# Altium schematic symbol library DC_AC_Inverter.SchLib: 39 symbols (part 3 of 4)
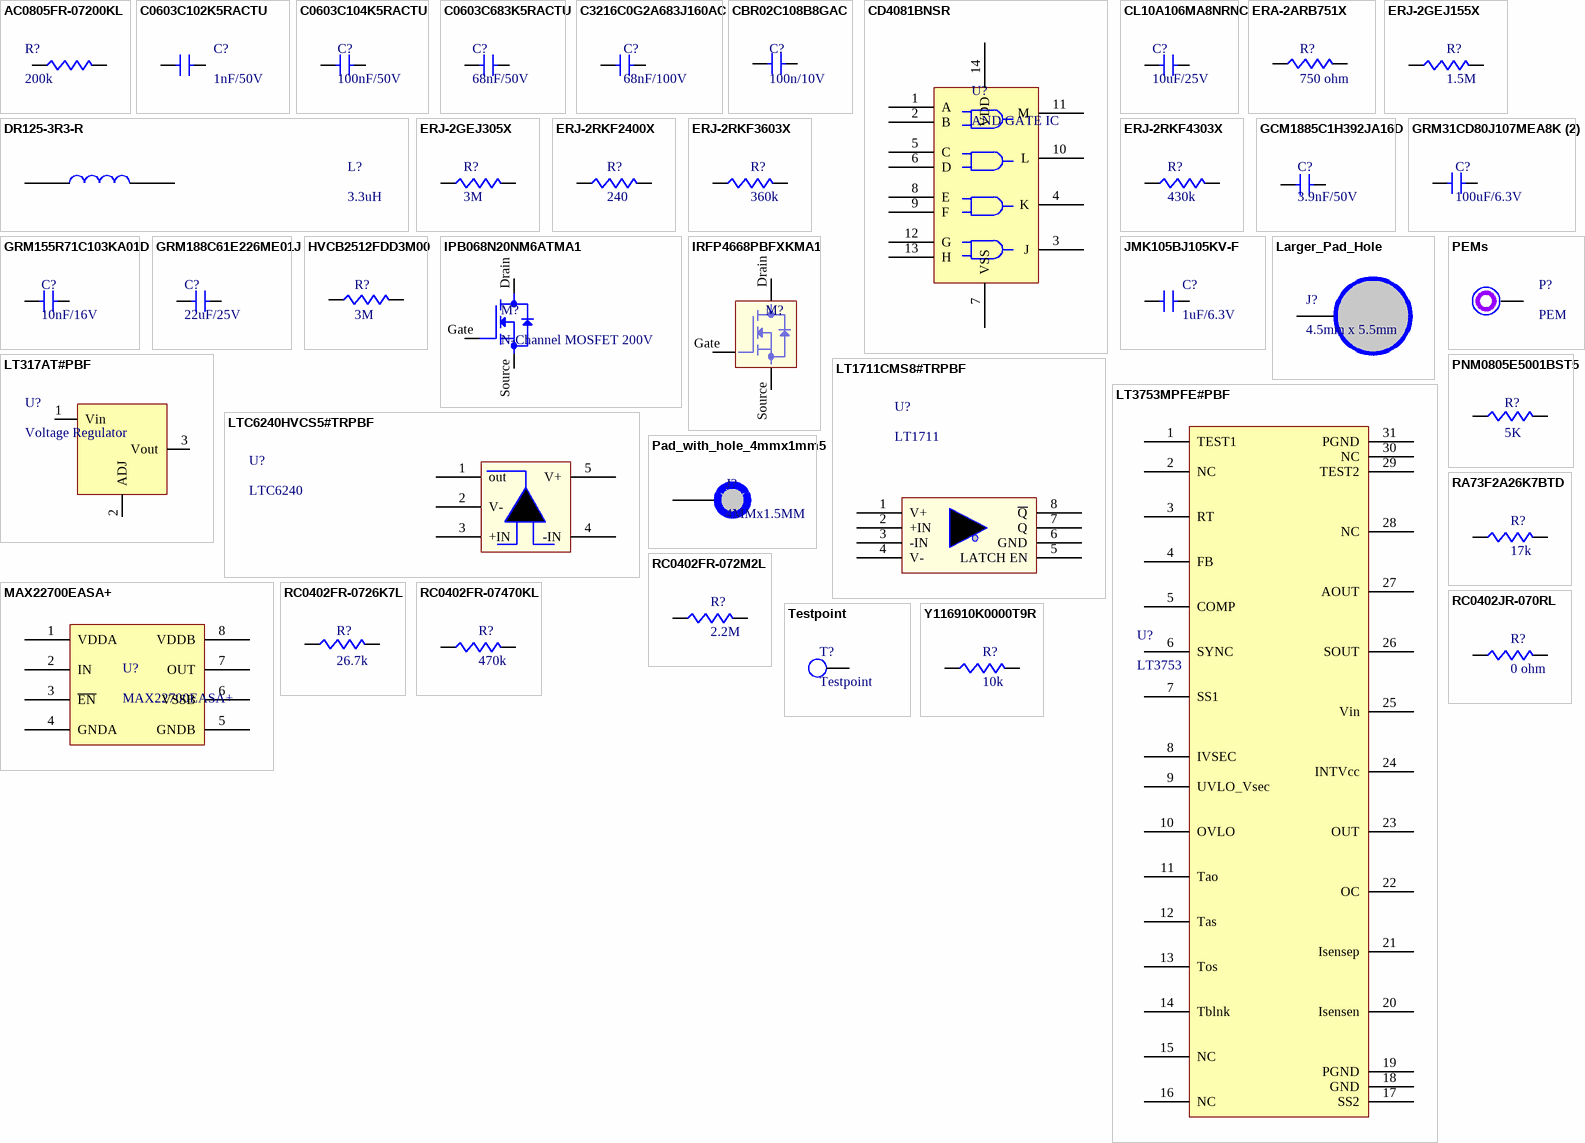
[diagram p2: symbols AC0805FR-07200KL to Y116910K0000T9R]

## GRM188C61E226ME01J
designator C?, comment 22uF/25V
Ceramic Capacitor, Multilayer, Ceramic, 25V, 20% +Tol, 20% -Tol, X5S, 22% TC, 22uF, Surface Mount, 0603; Manufacturer: Murata; Manufacturer Part Number: GRM188C61E226ME01J; Value: 22µF; Supplier: DigiKey; Supplier Part Number: 490-GRM188C61E226ME01JDKR-ND; RoHS: Compliant; Category: Ceramic Capacitors; Stock: 20437; Pricing: 1=0.41, 10=0.244, 50=0.181, 100=0.1615, 500=0.12866, 1000=0.11854, 2500=0.10786, 5000=0.10143 (USD); Case/Package: 0603; Dielectric: X5S; Dielectric Material: Ceramic; Export Control Classification Number (ECCN) Code: EAR99; Height: 800µm; Harmonized Tariff Schedule (HTS) Code: 8532.24.00.20; Introduction Date: 2024-04-22; Length: 1.6mm; Lifecycle Status: Production; Material: Ceramic; Max Operating Temperature: 85°C; Min Operating Temperature: -55°C; Mounting Technology: Surface Mount; Number of Terminals: 2; REACH SVHC: Yes; Thickness: 800µm; Tolerance: 20%; Voltage Rating: 25V; Voltage Rating (DC): 25V; Width: 800µm; ComponentLink1URL: https://datasheet.octopart.com/GRM188C61E226ME01J-Murata-datasheet-12515295.pdf; ComponentLink1Description: https://datasheet.octopart.com/GRM188C61E226ME01J-Murata-datasheet-12515295.pdf; ComponentLink2URL: https://datasheet.octopart.com/GRM188C61E226ME01J-Murata-datasheet-12510076.pdf; ComponentLink2Description: https://datasheet.octopart.com/GRM188C61E226ME01J-Murata-datasheet-12510076.pdf; ComponentLink3URL: https://datasheet.octopart.com/GRM188C61E226ME01J-Murata-datasheet-11978611.pdf; ComponentLink3Description: https://datasheet.octopart.com/GRM188C61E226ME01J-Murata-datasheet-11978611.pdf; ComponentLink4URL: https://datasheet.octopart.com/GRM188C61E226ME01J-Murata-datasheet-10025737.pdf; ComponentLink4Description: https://datasheet.octopart.com/GRM188C61E226ME01J-Murata-datasheet-10025737.pdf; ComponentLink5URL: https://datasheet.octopart.com/GRM188C61E226ME01J-Murata-datasheet-8819587.pdf; ComponentLink5Description: https://datasheet.octopart.com/GRM188C61E226ME01J-Murata-datasheet-8819587.pdf; ComponentLink6URL: http://sigma.octopart.com:80/reach_statement/Murata-company-16.pdf?src-supplier=Compliance+Statements; ComponentLink6Description: http://sigma.octopart.com:80/reach_statement/Murata-company-16.pdf?src-supplier=Compliance+Statements
footprint Capacitor
pins: 1, 2

## HVCB2512FDD3M00
designator R?, comment 3M
Res Thick Film 2512 3M Ohm 1% 2W ±100ppm/°C Molded SMD Plastic T/R; Manufacturer: Stackpole Electronics; Manufacturer Part Number: HVCB2512FDD3M00; Value: 3MΩ; Working Voltage: 3kV; Supplier: DigiKey; Supplier Part Number: HVCB2512FDD3M00CT-ND; RoHS: Compliant; Category: Chip SMD Resistors; Stock: 4368; Pricing: 1=4.71, 10=3.568, 25=3.51, 50=3.16, 100=3.06 (USD); Case/Package: 2512; Case Code (Imperial): 2512; Case Code (Metric): 6432; Composition: Thick Film; Height: 760µm; Length: 6.35mm; Lifecycle Status: Production; Max Operating Temperature: 150°C; Max Power Dissipation: 2W; Min Operating Temperature: -55°C; Mounting Technology: Surface Mount; Number of Terminals: 2; Number of Terminations: 2; Packaging: Digi-Reel®; Power Dissipation: 2W; REACH SVHC: Yes; Schedule B: 8533210045, 8533210045|8533210045|8533210045|8533210045|8533210045; Temperature Coefficient: 100ppm/°C; Tolerance: 1%; Width: 3.18mm; ComponentLink1URL: https://datasheet.octopart.com:443/HVCB2512FDD3M00-Stackpole-Electronics-datasheet-182147965.pdf?src-supplier=IHS; ComponentLink1Description: https://datasheet.octopart.com:443/HVCB2512FDD3M00-Stackpole-Electronics-datasheet-182147965.pdf?src-supplier=IHS; ComponentLink2URL: https://datasheet.octopart.com:443/HVCB2512FDD3M00-Stackpole-Electronics-datasheet-141193802.pdf?src-supplier=Stackpole+Electronics; ComponentLink2Description: https://datasheet.octopart.com:443/HVCB2512FDD3M00-Stackpole-Electronics-datasheet-141193802.pdf?src-supplier=Stackpole+Electronics; ComponentLink3URL: https://datasheet.octopart.com:443/HVCB2512FDD3M00-Stackpole-Electronics-datasheet-43153415.pdf?src-supplier=Stackpole+Electronics; ComponentLink3Description: https://datasheet.octopart.com:443/HVCB2512FDD3M00-Stackpole-Electronics-datasheet-43153415.pdf?src-supplier=Stackpole+Electronics; ComponentLink4URL: https://datasheet.octopart.com:443/HVCB2512FDD3M00-Stackpole-Electronics-datasheet-145014844.pdf?src-supplier=Future+Electronics; ComponentLink4Description: https://datasheet.octopart.com:443/HVCB2512FDD3M00-Stackpole-Electronics-datasheet-145014844.pdf?src-supplier=Future+Electronics; ComponentLink5URL: https://datasheet.octopart.com:443/HVCB2512FDD3M00-Stackpole-Electronics-datasheet-12549496.pdf?src-supplier=Factory+Futures; ComponentLink5Description: https://datasheet.octopart.com:443/HVCB2512FDD3M00-Stackpole-Electronics-datasheet-12549496.pdf?src-supplier=Factory+Futures; ComponentLink6URL: http://sigma.octopart.com:80/15940590/materials_sheet/Stackpole-Electronics-HVCB2512FDD3M00.pdf?src-supplier=Compliance+Statements; ComponentLink6Description: http://sigma.octopart.com:80/15940590/materials_sheet/Stackpole-Electronics-HVCB2512FDD3M00.pdf?src-supplier=Compliance+Statements; ComponentLink7URL: http://sigma.octopart.com:80/141158212/rohs_statement/Stackpole-Electronics-HVCB2512FDD3M00.pdf?src-supplier=Compliance+Statements; ComponentLink7Description: http://sigma.octopart.com:80/141158212/rohs_statement/Stackpole-Electronics-HVCB2512FDD3M00.pdf?src-supplier=Compliance+Statements; ComponentLink8URL: http://sigma.octopart.com:80/141158211/reach_statement/Stackpole-Electronics-HVCB2512FDD3M00.pdf?src-supplier=Compliance+Statements; ComponentLink8Description: http://sigma.octopart.com:80/141158211/reach_statement/Stackpole-Electronics-HVCB2512FDD3M00.pdf?src-supplier=Compliance+Statements
footprint Resistor-3M
pins: 1, 2

## IPB068N20NM6ATMA1
designator M?, comment N-Channel MOSFET 200V
Trans MOSFET N-CH 200V 15.4A 3-Pin(2+Tab) D2PAK T/R; Manufacturer: Infineon; Manufacturer Part Number: IPB068N20NM6ATMA1; Supplier: DigiKey; Supplier Part Number: 448-IPB068N20NM6ATMA1CT-ND; RoHS: Compliant; Category: MOSFETs; Stock: 4020; Pricing: 1=8.02, 10=5.45, 100=4.2066 (USD); Lifecycle Status: Production; REACH SVHC: Yes; ComponentLink1URL: https://datasheet.octopart.com:443/IPB068N20NM6ATMA1-Infineon-datasheet-188885164.pdf?src-supplier=TME; ComponentLink1Description: https://datasheet.octopart.com:443/IPB068N20NM6ATMA1-Infineon-datasheet-188885164.pdf?src-supplier=TME; ComponentLink2URL: http://sigma.octopart.com:80/conflict_mineral_statement/Infineon-company-51.pdf?src-supplier=Compliance+Statements; ComponentLink2Description: http://sigma.octopart.com:80/conflict_mineral_statement/Infineon-company-51.pdf?src-supplier=Compliance+Statements
footprint SOT89-254P1058X483-3N (SOT89, 3-Leads, Body 10.16x9.02mm, Pitch 2.54mm, Lead Span 10.6mm, IPC Medium Density)
pins: Drain, Gate, Source

## IRFP4668PBFXKMA1
designator M?, comment N-Channel Mosfet  (value not drawn)
Mosfet, N-Ch, 130A, To-247Ac Rohs Compliant: Yes |Infineon IRFP4668PBFXKMA1; Drain to Source Resistance: 9.7mΩ; Max Power Dissipation: 520W; Min Breakdown Voltage: 200V; Number of Elements: 1; Supplier: DigiKey; Supplier Part Number: 448-IRFP4668PBFXKMA1-ND; Manufacturer: Infineon; Manufacturer Part Number: IRFP4668PBFXKMA1; RoHS: Compliant; Category: MOSFETs; Stock: 351; Pricing: 1=5.27, 25=2.9324, 100=2.597, 500=2.09112, 1000=2.0475 (USD); Continuous Drain Current (ID): 130A; Lifecycle Status: Production; Max Operating Temperature: 175°C; Min Operating Temperature: -55°C; Number of Terminals: 3; ComponentLink1URL: http://sigma.octopart.com:80/conflict_mineral_statement/Infineon-company-51.pdf?src-supplier=Compliance+Statements; ComponentLink1Description: http://sigma.octopart.com:80/conflict_mineral_statement/Infineon-company-51.pdf?src-supplier=Compliance+Statements
footprint IRPF
pins: Drain 2, Gate 1, Source 3

## JMK105BJ105KV-F
designator C?, comment 1uF/6.3V
High Value Multilayer Ceramic Capacitors (High dielectric type) | CAP CER 1UF 6.3V X5R 0402; Manufacturer: Taiyo Yuden; Manufacturer Part Number: JMK105BJ105KV-F; Tolerance: 10%; Value: 1µF; Supplier: DigiKey; Supplier Part Number: 587-1231-1-ND; RoHS: Compliant; Category: Ceramic Capacitors; Stock: 20863025; Pricing: 1=0.08, 10=0.005 (USD); Case/Package: 0402; Case Code (Imperial): 0402; Case Code (Metric): 1005; Composition: Ceramic; Depth: 500µm; Dielectric: X5R; Dielectric Material: Ceramic; Halogen Free: Halogen Free; Height: 500µm; Lead Free: Lead Free; Length: 1mm; Lifecycle Status: NRND; Max Length: 1.05mm; Max Operating Temperature: 85°C; Max Thickness: 550µm; Max Width: 550µm; Min Length: 950µm; Min Operating Temperature: -55°C; Min Thickness: 450µm; Min Width: 450µm; Mounting Technology: Surface Mount; Pins: 2; Number of Terminals: 2; Packaging: Cut Tape; Radiation Hardening: No; REACH SVHC: Yes; Termination: SMD/SMT; Thickness: 558.8µm; Voltage Rating: 6.3V; Voltage Rating (DC): 6.3V; Width: 500µm; ComponentLink1URL: https://datasheet.octopart.com:443/JMK105BJ105KV-F-Taiyo-Yuden-datasheet-182105236.pdf?src-supplier=IHS; ComponentLink1Description: https://datasheet.octopart.com:443/JMK105BJ105KV-F-Taiyo-Yuden-datasheet-182105236.pdf?src-supplier=IHS; ComponentLink2URL: https://datasheet.octopart.com:443/JMK105BJ105KV-F-Taiyo-Yuden-datasheet-100443360.pdf?src-supplier=Upverter; ComponentLink2Description: https://datasheet.octopart.com:443/JMK105BJ105KV-F-Taiyo-Yuden-datasheet-100443360.pdf?src-supplier=Upverter; ComponentLink3URL: https://datasheet.octopart.com:443/JMK105BJ105KV-F-Taiyo-Yuden-datasheet-8857305.pdf?src-supplier=Newark; ComponentLink3Description: https://datasheet.octopart.com:443/JMK105BJ105KV-F-Taiyo-Yuden-datasheet-8857305.pdf?src-supplier=Newark; ComponentLink4URL: https://datasheet.octopart.com:443/JMK105BJ105KV-F-Taiyo-Yuden-datasheet-182874064.pdf?src-supplier=Newark; ComponentLink4Description: https://datasheet.octopart.com:443/JMK105BJ105KV-F-Taiyo-Yuden-datasheet-182874064.pdf?src-supplier=Newark; ComponentLink5URL: https://datasheet.octopart.com:443/JMK105BJ105KV-F-Taiyo-Yuden-datasheet-65970389.pdf?src-supplier=Newark; ComponentLink5Description: https://datasheet.octopart.com:443/JMK105BJ105KV-F-Taiyo-Yuden-datasheet-65970389.pdf?src-supplier=Newark; ComponentLink6URL: https://datasheet.octopart.com:443/JMK105BJ105KV-F-Taiyo-Yuden-datasheet-13695304.pdf?src-supplier=Newark; ComponentLink6Description: https://datasheet.octopart.com:443/JMK105BJ105KV-F-Taiyo-Yuden-datasheet-13695304.pdf?src-supplier=Newark; ComponentLink7URL: https://datasheet.octopart.com:443/JMK105BJ105KV-F-Taiyo-Yuden-datasheet-154808611.pdf?src-supplier=Master+Electronics; ComponentLink7Description: https://datasheet.octopart.com:443/JMK105BJ105KV-F-Taiyo-Yuden-datasheet-154808611.pdf?src-supplier=Master+Electronics; ComponentLink8URL: https://datasheet.octopart.com:443/JMK105BJ105KV-F-Taiyo-Yuden-datasheet-140424376.pdf?src-supplier=Master+Electronics; ComponentLink8Description: https://datasheet.octopart.com:443/JMK105BJ105KV-F-Taiyo-Yuden-datasheet-140424376.pdf?src-supplier=Master+Electronics; ComponentLink9URL: https://datasheet.octopart.com:443/JMK105BJ105KV-F-Taiyo-Yuden-datasheet-138516745.pdf?src-supplier=Master+Electronics; ComponentLink9Description: https://datasheet.octopart.com:443/JMK105BJ105KV-F-Taiyo-Yuden-datasheet-138516745.pdf?src-supplier=Master+Electronics; ComponentLink10URL: https://datasheet.octopart.com:443/JMK105BJ105KV-F-Taiyo-Yuden-datasheet-10851928.pdf?src-supplier=Future+Electronics; ComponentLink10Description: https://datasheet.octopart.com:443/JMK105BJ105KV-F-Taiyo-Yuden-datasheet-10851928.pdf?src-supplier=Future+Electronics; ComponentLink11URL: https://datasheet.octopart.com:443/JMK105BJ105KV-F-Taiyo-Yuden-datasheet-99833418.pdf?src-supplier=Future+Electronics; ComponentLink11Description: https://datasheet.octopart.com:443/JMK105BJ105KV-F-Taiyo-Yuden-datasheet-99833418.pdf?src-supplier=Future+Electronics; ComponentLink12URL: https://datasheet.octopart.com:443/JMK105BJ105KV-F-Taiyo-Yuden-datasheet-120265.pdf?src-supplier=Farnell; ComponentLink12Description: https://datasheet.octopart.com:443/JMK105BJ105KV-F-Taiyo-Yuden-datasheet-120265.pdf?src-supplier=Farnell; ComponentLink13URL: https://datasheet.octopart.com:443/JMK105BJ105KV-F-Taiyo-Yuden-datasheet-10742123.pdf?src-supplier=Farnell; ComponentLink13Description: https://datasheet.octopart.com:443/JMK105BJ105KV-F-Taiyo-Yuden-datasheet-10742123.pdf?src-supplier=Farnell; ComponentLink14URL: https://datasheet.octopart.com:443/JMK105BJ105KV-F-Taiyo-Yuden-datasheet-10545600.pdf?src-supplier=Farnell; ComponentLink14Description: https://datasheet.octopart.com:443/JMK105BJ105KV-F-Taiyo-Yuden-datasheet-10545600.pdf?src-supplier=Farnell; ComponentLink15URL: https://datasheet.octopart.com:443/JMK105BJ105KV-F-Taiyo-Yuden-datasheet-10622963.pdf?src-supplier=Farnell; ComponentLink15Description: https://datasheet.octopart.com:443/JMK105BJ105KV-F-Taiyo-Yuden-datasheet-10622963.pdf?src-supplier=Farnell; ComponentLink16URL: https://datasheet.octopart.com:443/JMK105BJ105KV-F-Taiyo-Yuden-datasheet-10618026.pdf?src-supplier=Farnell; ComponentLink16Description: https://datasheet.octopart.com:443/JMK105BJ105KV-F-Taiyo-Yuden-datasheet-10618026.pdf?src-supplier=Farnell; ComponentLink17URL: https://datasheet.octopart.com:443/JMK105BJ105KV-F-Taiyo-Yuden-datasheet-10549048.pdf?src-supplier=Farnell; ComponentLink17Description: https://datasheet.octopart.com:443/JMK105BJ105KV-F-Taiyo-Yuden-datasheet-10549048.pdf?src-supplier=Farnell; ComponentLink18URL: https://datasheet.octopart.com:443/JMK105BJ105KV-F-Taiyo-Yuden-datasheet-10671320.pdf?src-supplier=Farnell; ComponentLink18Description: https://datasheet.octopart.com:443/JMK105BJ105KV-F-Taiyo-Yuden-datasheet-10671320.pdf?src-supplier=Farnell; ComponentLink19URL: https://datasheet.octopart.com:443/JMK105BJ105KV-F-Taiyo-Yuden-datasheet-10620942.pdf?src-supplier=Farnell; ComponentLink19Description: https://datasheet.octopart.com:443/JMK105BJ105KV-F-Taiyo-Yuden-datasheet-10620942.pdf?src-supplier=Farnell; ComponentLink20URL: https://datasheet.octopart.com:443/JMK105BJ105KV-F-Taiyo-Yuden-datasheet-10408854.pdf?src-supplier=Farnell; ComponentLink20Description: https://datasheet.octopart.com:443/JMK105BJ105KV-F-Taiyo-Yuden-datasheet-10408854.pdf?src-supplier=Farnell; ComponentLink21URL: https://datasheet.octopart.com:443/JMK105BJ105KV-F-Taiyo-Yuden-datasheet-10283011.pdf?src-supplier=Farnell; ComponentLink21Description: https://datasheet.octopart.com:443/JMK105BJ105KV-F-Taiyo-Yuden-datasheet-10283011.pdf?src-supplier=Farnell; ComponentLink22URL: https://datasheet.octopart.com:443/JMK105BJ105KV-F-Taiyo-Yuden-datasheet-10031713.pdf?src-supplier=Farnell; ComponentLink22Description: https://datasheet.octopart.com:443/JMK105BJ105KV-F-Taiyo-Yuden-datasheet-10031713.pdf?src-supplier=Farnell; ComponentLink23URL: https://datasheet.octopart.com:443/JMK105BJ105KV-F-Taiyo-Yuden-datasheet-10854574.pdf?src-supplier=Farnell; ComponentLink23Description: https://datasheet.octopart.com:443/JMK105BJ105KV-F-Taiyo-Yuden-datasheet-10854574.pdf?src-supplier=Farnell; ComponentLink24URL: https://datasheet.octopart.com:443/JMK105BJ105KV-F-Taiyo-Yuden-datasheet-8820216.pdf?src-supplier=Farnell; ComponentLink24Description: https://datasheet.octopart.com:443/JMK105BJ105KV-F-Taiyo-Yuden-datasheet-8820216.pdf?src-supplier=Farnell; ComponentLink25URL: https://datasheet.octopart.com:443/JMK105BJ105KV-F-Taiyo-Yuden-datasheet-119523.pdf?src-supplier=Farnell; ComponentLink25Description: https://datasheet.octopart.com:443/JMK105BJ105KV-F-Taiyo-Yuden-datasheet-119523.pdf?src-supplier=Farnell; ComponentLink26URL: https://datasheet.octopart.com:443/JMK105BJ105KV-F-Taiyo-Yuden-datasheet-5326109.pdf?src-supplier=Farnell; ComponentLink26Description: https://datasheet.octopart.com:443/JMK105BJ105KV-F-Taiyo-Yuden-datasheet-5326109.pdf?src-supplier=Farnell; ComponentLink27URL: https://datasheet.octopart.com:443/JMK105BJ105KV-F-Taiyo-Yuden-datasheet-118905.pdf?src-supplier=Farnell; ComponentLink27Description: https://datasheet.octopart.com:443/JMK105BJ105KV-F-Taiyo-Yuden-datasheet-118905.pdf?src-supplier=Farnell; ComponentLink28URL: https://datasheet.octopart.com:443/JMK105BJ105KV-F-Taiyo-Yuden-datasheet-1645.pdf?src-supplier=Farnell; ComponentLink28Description: https://datasheet.octopart.com:443/JMK105BJ105KV-F-Taiyo-Yuden-datasheet-1645.pdf?src-supplier=Farnell; ComponentLink29URL: https://datasheet.octopart.com:443/JMK105BJ105KV-F-Taiyo-Yuden-datasheet-138738940.pdf?src-supplier=Taiyo+Yuden+SCT; ComponentLink29Description: https://datasheet.octopart.com:443/JMK105BJ105KV-F-Taiyo-Yuden-datasheet-138738940.pdf?src-supplier=Taiyo+Yuden+SCT; ComponentLink30URL: https://datasheet.octopart.com:443/JMK105BJ105KV-F-Taiyo-Yuden-datasheet-41181654.pdf?src-supplier=Electro+Sonic; ComponentLink30Description: https://datasheet.octopart.com:443/JMK105BJ105KV-F-Taiyo-Yuden-datasheet-41181654.pdf?src-supplier=Electro+Sonic; ComponentLink31URL: https://datasheet.octopart.com:443/JMK105BJ105KV-F-Taiyo-Yuden-datasheet-13693548.pdf?src-supplier=Electro+Sonic; ComponentLink31Description: https://datasheet.octopart.com:443/JMK105BJ105KV-F-Taiyo-Yuden-datasheet-13693548.pdf?src-supplier=Electro+Sonic; ComponentLink32URL: https://datasheet.octopart.com/JMK105BJ105KV-F-Taiyo-Yuden-datasheet-17273223.pdf; ComponentLink32Description: https://datasheet.octopart.com/JMK105BJ105KV-F-Taiyo-Yuden-datasheet-17273223.pdf; ComponentLink33URL: https://datasheet.octopart.com:443/JMK105BJ105KV-F-Taiyo-Yuden-datasheet-8434558.pdf?src-supplier=element14; ComponentLink33Description: https://datasheet.octopart.com:443/JMK105BJ105KV-F-Taiyo-Yuden-datasheet-8434558.pdf?src-supplier=element14
footprint Capacitor
pins: 1, 2

## Larger_Pad_Hole
designator J?, comment 4.5mm x 5.5mm
Pad With 5.5mm x 5.5mm Hole
footprint Pad_With_HHole
pins: 1

## LT317AT#PBF
designator U?, comment Voltage Regulator
LDO Regulator Pos 1.5A 3-Pin(3+Tab) TO-220; Manufacturer: Analog Devices; Manufacturer Part Number: LT317AT#PBF; Manufacturer Lifecycle Status: PRODUCTION; Dropout Voltage: 2.5V; Max Supply Voltage: 40V; Min Input Voltage: 3V; Number of Channels: 1; Output Type: Adjustable; Output Voltage Accuracy: 1%; Polarity: Positive; Reference Voltage: 1.25V; Supplier: DigiKey; Supplier Part Number: 505-LT317AT#PBF-ND; RoHS: Compliant; Category: Voltage Regulators - Linear; Stock: 773; Pricing: 1=6.37, 10=4.896, 50=4.3046, 100=4.1214, 250=3.928, 500=3.81142, 1000=3.71547, 2500=3.61417 (USD); Case/Package: TO-220; Height: 14.886mm; Lead Free: Lead Free; Length: 10.69mm; Lifecycle Status: Production; Max Operating Temperature: 125°C; Max Output current: 1.5A; Min Current Limit: 1.5A; Min Operating Temperature: 0°C; Mounting Technology: Through Hole; Number of Outputs: 1; Pins: 3; Number of Regulators: 1; Output Current: 1.5A; Packaging: Bulk; REACH SVHC: No; Schedule B: 8542390000, 8542390000|8542390000|8542390000|8542390000|8542390000|8542390000|8542390000|8542390000|8542390000|8542390000|8542390000|8542390000|8542390000|8542390000|8542390000|8542390000|8542390000|8542390000|8542390000|8542390000|8542390000|8542390000|8542390000|85; Tolerance: 1%; Width: 4.572mm; ComponentLink1URL: https://octopart.com:443/opatz8j6/c1?t=tdoiWRgwZnV-Wph107wcHS5xQQXSIdO2-gyuBhF36HPp7t9yl-Td0csXaHC6kf42ttkNy5k4FvsX6PxBomCL0zX1cJp6livUo3VcnVMqaO14i1GaDjF3JVd6-9oOOBs7C29wDgI-QKi5yyCG6FfzAKxSdPPuF69YPUS-NO0Sm5gTlSwZ2ZL3tbi_UnVguRaZJZl5o1g4mHwEAghi5QAsAvWfoFOn7YTYqrJw1tyji750Y7Uz6wtF9kQQDVuHzX_OsyqcxduaQsGHQSbiI2FVTswyENmvOewqRtRFtIHnqbKI_68J1sI-&src-supplier=Analog+Devices; ComponentLink1Description: https://octopart.com:443/opatz8j6/c1?t=tdoiWRgwZnV-Wph107wcHS5xQQXSIdO2-gyuBhF36HPp7t9yl-Td0csXaHC6kf42ttkNy5k4FvsX6PxBomCL0zX1cJp6livUo3VcnVMqaO14i1GaDjF3JVd6-9oOOBs7C29wDgI-QKi5yyCG6FfzAKxSdPPuF69YPUS-NO0Sm5gTlSwZ2ZL3tbi_UnVguRaZJZl5o1g4mHwEAghi5QAsAvWfoFOn7YTYqrJw1tyji750Y7Uz6wtF9kQQDVuHzX_OsyqcxduaQsGHQSbiI2FVTswyENmvOewqRtRFtIHnqbKI_68J1sI-&src-supplier=Analog+Devices; ComponentLink2URL: https://datasheet.octopart.com:443/LT317AT%23PBF-Analog-Devices-datasheet-14357770.pdf?src-supplier=Linear+Technology; ComponentLink2Description: https://datasheet.octopart.com:443/LT317AT%23PBF-Analog-Devices-datasheet-14357770.pdf?src-supplier=Linear+Technology; ComponentLink3URL: https://sigma.octopart.com:443/57689916/technical_drawing/Linear-Technology-LT317AT%23PBF.pdf?src-supplier=Linear+Technology; ComponentLink3Description: https://sigma.octopart.com:443/57689916/technical_drawing/Linear-Technology-LT317AT%23PBF.pdf?src-supplier=Linear+Technology; ComponentLink4URL: https://datasheet.octopart.com:443/LT317AT%23PBF-Linear-Technology-datasheet-7628552.pdf?src-supplier=Nu+Horizons; ComponentLink4Description: https://datasheet.octopart.com:443/LT317AT%23PBF-Linear-Technology-datasheet-7628552.pdf?src-supplier=Nu+Horizons; ComponentLink5URL: https://datasheet.octopart.com:443/LT317AT%23PBF-Linear-Technology-datasheet-526547.pdf?src-supplier=Farnell; ComponentLink5Description: https://datasheet.octopart.com:443/LT317AT%23PBF-Linear-Technology-datasheet-526547.pdf?src-supplier=Farnell; ComponentLink6URL: https://datasheet.octopart.com:443/LT317AT%23PBF-Linear-Technology-datasheet-530213.pdf?src-supplier=Farnell; ComponentLink6Description: https://datasheet.octopart.com:443/LT317AT%23PBF-Linear-Technology-datasheet-530213.pdf?src-supplier=Farnell; ComponentLink7URL: http://sigma.octopart.com:80/conflict_mineral_statement/Analog-Devices-company-33.pdf?src-supplier=Compliance+Statements; ComponentLink7Description: http://sigma.octopart.com:80/conflict_mineral_statement/Analog-Devices-company-33.pdf?src-supplier=Compliance+Statements; ComponentLink8URL: https://octopart.com:443/opatz8j6/c1?t=JX-HlaGeagCKLogq6AWfLzWzIGWXGD7G-aJPOdFQQk1YBPE6TRsS4g_GCD3O9PwGoDK8T74oP8tfOzPo3LZsKQh3Wf5m0non0nDaxxZsATcNxQsOvV_cHkJVj1UJryIwVmjht0TZjItwWmrLTt9mgAN_Jdw0b9-T9qwNWwn3p6ynmb2yvY2RgQnPw8Npwy0UnlpHeB5gXTOA9CBEG8loW_y7i_LyiYydq06s3X1evJpsdhOcp5CC6-ulsNahPFfhP3qXtmoF3UJG_lKiwKNvd1uy_Il9GfXWm35m8Won24wHtfrQpeFk&src-supplier=Compliance+Statements; ComponentLink8Description: https://octopart.com:443/opatz8j6/c1?t=JX-HlaGeagCKLogq6AWfLzWzIGWXGD7G-aJPOdFQQk1YBPE6TRsS4g_GCD3O9PwGoDK8T74oP8tfOzPo3LZsKQh3Wf5m0non0nDaxxZsATcNxQsOvV_cHkJVj1UJryIwVmjht0TZjItwWmrLTt9mgAN_Jdw0b9-T9qwNWwn3p6ynmb2yvY2RgQnPw8Npwy0UnlpHeB5gXTOA9CBEG8loW_y7i_LyiYydq06s3X1evJpsdhOcp5CC6-ulsNahPFfhP3qXtmoF3UJG_lKiwKNvd1uy_Il9GfXWm35m8Won24wHtfrQpeFk&src-supplier=Compliance+Statements
footprint SOT254P700X939-4N (SOT223, 4-Leads, Body 10.36x7.00mm (avg), Pitch 2.54mm, IPC Medium Density)
pins: 1 Vin, 2 ADJ, 3 Vout

## LT1711CMS8#TRPBF
designator U?, comment LT1711
Comparator, 1 Func, 6000uV Offset-Max, 5.5ns Response Time, PDSO8; Manufacturer: Analog Devices; Manufacturer Part Number: LT1711CMS8#TRPBF; Manufacturer Lifecycle Status: PRODUCTION; Common Mode Rejection Ratio: 85dB; Dual Supply Voltage: 3V; Hysteresis: 100mV; Input Bias Current: 5µA; Input Offset Voltage (Vos): 5mV; Max Dual Supply Voltage: 3.5V; Max Supply Voltage: 12V; Min Dual Supply Voltage: 1.2V; Min Supply Voltage: 2.4V; Number of Channels: 1; Output Current: 20mA; Output Type: TTL; Propagation Delay: 6ns; Quiescent Current: 22mA; Voltage Gain: 83.52dB; Supplier: DigiKey; Supplier Part Number: LT1711CMS8#TRPBFCT-ND; RoHS: Compliant; Category: Comparators; Stock: 597; Pricing: 1=8.28, 10=5.556, 25=4.846, 100=4.0433, 250=3.6492, 500=3.55 (USD); Case/Package: MSOP; Lead Free: Lead Free; Lifecycle Status: Production; Max Operating Temperature: 85°C; Min Operating Temperature: -40°C; Number of Elements: 1; Pins: 8; Packaging: Tape & Reel (TR); Power Supply Rejection Ratio (PSRR): 85dB; Response Time: 5.5ns; ComponentLink1URL: https://datasheet.octopart.com:443/LT1711CMS8%23TRPBF-Analog-Devices-datasheet-10875408.pdf?src-supplier=Upverter; ComponentLink1Description: https://datasheet.octopart.com:443/LT1711CMS8%23TRPBF-Analog-Devices-datasheet-10875408.pdf?src-supplier=Upverter; ComponentLink2URL: https://octopart.com:443/opatz8j6/c1?t=650wlvKgRWePQJ-YQfhsSkbrZKYDfddFKR30Pp4clKTLmQX5EVcfxF7zy-kc5koLkDxHTRYRN_B3Ny87B9bmV_c9SyVMUnfKuNcS4mmeLxWPRV8jKqIUNmt9U3DobyKC0m2MBwfFbz01P5Hy_wy0NXjMJyXdAbGyqFhD_jhyaJfJ26v792jlQm0ErKRp1UjjVY9BZslcaskmKsL6xJsX4oNUx0LtaC6UIuSKqy15rF3GND51pM_3zZ9lo8oMlZmILwm2IzCFUc_NrKjwIWQ5WZVa4euGqcnDRfh7_s6LA3x7C_zoIgl14A&src-supplier=Analog+Devices; ComponentLink2Description: https://octopart.com:443/opatz8j6/c1?t=650wlvKgRWePQJ-YQfhsSkbrZKYDfddFKR30Pp4clKTLmQX5EVcfxF7zy-kc5koLkDxHTRYRN_B3Ny87B9bmV_c9SyVMUnfKuNcS4mmeLxWPRV8jKqIUNmt9U3DobyKC0m2MBwfFbz01P5Hy_wy0NXjMJyXdAbGyqFhD_jhyaJfJ26v792jlQm0ErKRp1UjjVY9BZslcaskmKsL6xJsX4oNUx0LtaC6UIuSKqy15rF3GND51pM_3zZ9lo8oMlZmILwm2IzCFUc_NrKjwIWQ5WZVa4euGqcnDRfh7_s6LA3x7C_zoIgl14A&src-supplier=Analog+Devices; ComponentLink3URL: https://sigma.octopart.com:443/57689691/technical_drawing/Linear-Technology-LT1711CMS8%23TRPBF.pdf?src-supplier=Linear+Technology; ComponentLink3Description: https://sigma.octopart.com:443/57689691/technical_drawing/Linear-Technology-LT1711CMS8%23TRPBF.pdf?src-supplier=Linear+Technology; ComponentLink4URL: https://datasheet.octopart.com:443/LT1711CMS8%23TRPBF-Linear-Technology-datasheet-531423.pdf?src-supplier=Arrow+Electronics; ComponentLink4Description: https://datasheet.octopart.com:443/LT1711CMS8%23TRPBF-Linear-Technology-datasheet-531423.pdf?src-supplier=Arrow+Electronics; ComponentLink5URL: https://datasheet.octopart.com:443/LT1711CMS8%23TRPBF-Linear-Technology-datasheet-8633398.pdf?src-supplier=Component+Distributors+Inc.; ComponentLink5Description: https://datasheet.octopart.com:443/LT1711CMS8%23TRPBF-Linear-Technology-datasheet-8633398.pdf?src-supplier=Component+Distributors+Inc.; ComponentLink6URL: http://sigma.octopart.com:80/conflict_mineral_statement/Analog-Devices-company-33.pdf?src-supplier=Compliance+Statements; ComponentLink6Description: http://sigma.octopart.com:80/conflict_mineral_statement/Analog-Devices-company-33.pdf?src-supplier=Compliance+Statements; ComponentLink7URL: https://octopart.com:443/opatz8j6/c1?t=dAkp5kuc4KinSuP60yLax01msfIdztXowOgvkuxzK3Ra-UG4s06W2o_Xknc9JFX10aGYdTDUDBu2YNVFrkx2WBDwiC1YG88wO0ahyiKjj84zGTHOqe6cdtECQCEg93bmhFrsTCKVU7XbI3Zx06BEHOSu75LsOIq3TdBLQ5RT2DUKzT7jTBeQnoZARtK9_sxDhnuz0peBXUPQFjmRShESnohF-C6lickybiUrna3amnDJggXX-SPCJw8XiYYPkAdcaGi6qpHt1rmN3o5XFTfLIZB1rU2ryKzDVzzLOCbWDs5ZWSHRXIcx7Q&src-supplier=Compliance+Statements; ComponentLink7Description: https://octopart.com:443/opatz8j6/c1?t=dAkp5kuc4KinSuP60yLax01msfIdztXowOgvkuxzK3Ra-UG4s06W2o_Xknc9JFX10aGYdTDUDBu2YNVFrkx2WBDwiC1YG88wO0ahyiKjj84zGTHOqe6cdtECQCEg93bmhFrsTCKVU7XbI3Zx06BEHOSu75LsOIq3TdBLQ5RT2DUKzT7jTBeQnoZARtK9_sxDhnuz0peBXUPQFjmRShESnohF-C6lickybiUrna3amnDJggXX-SPCJw8XiYYPkAdcaGi6qpHt1rmN3o5XFTfLIZB1rU2ryKzDVzzLOCbWDs5ZWSHRXIcx7Q&src-supplier=Compliance+Statements
footprint LT-MS8_L (SOP, 8-Leads, Body 3x3mm, Pitch 0.65mm, IPC High Density)
footprint LT1711 (SOP, 8-Leads, Body 3x3mm, Pitch 0.65mm, IPC High Density)
pins: 1 V+, 2 +IN, 3 -IN, 4 V-, 5 LATCH EN, 6 GND, 7 Q, 8 ~{Q}

## LT3753MPFE#PBF
designator U?, comment LT3753
Current Mode PWM Controller 100kHz to 500kHz 31-Pin TSSOP EP Tube; Manufacturer: Analog Devices; Manufacturer Part Number: LT3753MPFE#PBF; Manufacturer Lifecycle Status: PRODUCTION; Clock Sync: Yes; Max Duty Cycle: 76.2%; Max Junction Temperature (Tj): 150°C; Max Supply Voltage: 100V; Min Supply Voltage: 8.5V; Nominal Supply Voltage: 12V; Nominal Supply Current: 5.9mA; Number of Output Phases: 1; Output Current: 19mA; Topology: Buck; Supplier: DigiKey; Supplier Part Number: LT3753MPFE#PBF-ND; RoHS: Compliant; Category: Voltage Regulators - Switching; Stock: 89; Pricing: 1=24, 10=17.241, 50=14.5124 (USD); Case/Package: TSSOP; Frequency: 500kHz; Height: 1.2mm; Lifecycle Status: Production; Max Operating Temperature: 150°C; Min Operating Temperature: -55°C; Number of Outputs: 1; Pins: 38; Packaging: Cut Tape; REACH SVHC: No; Schedule B: 8542390000, 8542390000|8542390000|8542390000|8542390000|8542390000; Switching Frequency: 500kHz; Synchronous Rectifier: Yes; ComponentLink1URL: https://octopart.com:443/opatz8j6/c1?t=3RiXmvrVi_khQjTnA0Wi5gluD6UPF28OAPZLZLoVavKNdtq7w_GesCh51tm-F7ImxMTOyVjC03Gu1O9QTfMJqGwsrrXnOod6ycEDI-D6rxdeXNLrcmtCto8Twm4U0BKNd5JC14QwfeCj0XxgWgcr4jhtS6KL-F5eGjlh-ZZVFuIi8zHjzAUaxAXHIsgDqh5k9XMzoau3Yp3wYt1XlDqJ8PvAzQ_te0F1ADj1ixCvHa3Yi1QS2GjzMv-08CRABkxY_sviB6n0aPTtlsIHVUPRjJC91egQvA_SMcT5yNSZ6PRnfVP4URzObg&src-supplier=Analog+Devices; ComponentLink1Description: https://octopart.com:443/opatz8j6/c1?t=3RiXmvrVi_khQjTnA0Wi5gluD6UPF28OAPZLZLoVavKNdtq7w_GesCh51tm-F7ImxMTOyVjC03Gu1O9QTfMJqGwsrrXnOod6ycEDI-D6rxdeXNLrcmtCto8Twm4U0BKNd5JC14QwfeCj0XxgWgcr4jhtS6KL-F5eGjlh-ZZVFuIi8zHjzAUaxAXHIsgDqh5k9XMzoau3Yp3wYt1XlDqJ8PvAzQ_te0F1ADj1ixCvHa3Yi1QS2GjzMv-08CRABkxY_sviB6n0aPTtlsIHVUPRjJC91egQvA_SMcT5yNSZ6PRnfVP4URzObg&src-supplier=Analog+Devices; ComponentLink2URL: https://datasheet.octopart.com:443/LT3753MPFE%23PBF-Analog-Devices-datasheet-165517277.pdf?src-supplier=element14+APAC; ComponentLink2Description: https://datasheet.octopart.com:443/LT3753MPFE%23PBF-Analog-Devices-datasheet-165517277.pdf?src-supplier=element14+APAC; ComponentLink3URL: https://sigma.octopart.com:443/163792026/technical_drawing/Analog-Devices-LT3753MPFE%23PBF.pdf?src-supplier=Upverter; ComponentLink3Description: https://sigma.octopart.com:443/163792026/technical_drawing/Analog-Devices-LT3753MPFE%23PBF.pdf?src-supplier=Upverter; ComponentLink4URL: https://datasheet.octopart.com:443/LT3753MPFE%23PBF-Analog-Devices-datasheet-48576317.pdf?src-supplier=Farnell; ComponentLink4Description: https://datasheet.octopart.com:443/LT3753MPFE%23PBF-Analog-Devices-datasheet-48576317.pdf?src-supplier=Farnell; ComponentLink5URL: https://datasheet.octopart.com:443/LT3753MPFE%23PBF-Linear-Technology-datasheet-27844002.pdf?src-supplier=Newark; ComponentLink5Description: https://datasheet.octopart.com:443/LT3753MPFE%23PBF-Linear-Technology-datasheet-27844002.pdf?src-supplier=Newark; ComponentLink6URL: https://sigma.octopart.com:443/57697520/technical_drawing/Linear-Technology-LT3753MPFE%23PBF.pdf?src-supplier=Linear+Technology; ComponentLink6Description: https://sigma.octopart.com:443/57697520/technical_drawing/Linear-Technology-LT3753MPFE%23PBF.pdf?src-supplier=Linear+Technology; ComponentLink7URL: http://sigma.octopart.com:80/conflict_mineral_statement/Analog-Devices-company-33.pdf?src-supplier=Compliance+Statements; ComponentLink7Description: http://sigma.octopart.com:80/conflict_mineral_statement/Analog-Devices-company-33.pdf?src-supplier=Compliance+Statements; ComponentLink8URL: https://octopart.com:443/opatz8j6/c1?t=nAVyE4HVh0Ev8B9rVNLXyV6T08JrK7Vo0lSf4LFR7Qp_JuwbRsw1BS9oPfveJx1aA5DtmQWXfZrxSxCrjNo8pROqMmHQWuo-EyPS0k6mXZRFY5ECcisWvbqRLojKSLUfwvCvk6gpSO5VDxYYut4GOfYVvESoE_hXbfzuJBSSXrfRNBan3OZn4H8IDzKfYz2Tk_Wqu2ybWu_aPk2S3vEYMl7hNQc7yZ8Y2IYkSA4f784LB0PpbACGzwXFbn7g7cisiHvCpJT-6VHcQisiP9GRcCdndrWDBornW-z2d2BxCXwSerMG2CBmuA&src-supplier=Compliance+Statements; ComponentLink8Description: https://octopart.com:443/opatz8j6/c1?t=nAVyE4HVh0Ev8B9rVNLXyV6T08JrK7Vo0lSf4LFR7Qp_JuwbRsw1BS9oPfveJx1aA5DtmQWXfZrxSxCrjNo8pROqMmHQWuo-EyPS0k6mXZRFY5ECcisWvbqRLojKSLUfwvCvk6gpSO5VDxYYut4GOfYVvESoE_hXbfzuJBSSXrfRNBan3OZn4H8IDzKfYz2Tk_Wqu2ybWu_aPk2S3vEYMl7hNQc7yZ8Y2IYkSA4f784LB0PpbACGzwXFbn7g7cisiHvCpJT-6VHcQisiP9GRcCdndrWDBornW-z2d2BxCXwSerMG2CBmuA&src-supplier=Compliance+Statements
pins: 1 TEST1, 2 NC, 3 RT, 4 FB, 5 COMP, 6 SYNC, 7 SS1, 8 IVSEC, 9 UVLO_Vsec, 10 OVLO, 11 Tao, 12 Tas, 13 Tos, 14 Tblnk, 15 NC, 16 NC, 17 SS2, 18 GND, 19 PGND, 20 Isensen, 21 Isensep, 22 OC, 23 OUT, 24 INTVcc, 25 Vin, 26 SOUT, 27 AOUT, 28 NC, 29 TEST2, 30 NC, 31 PGND

## LTC6240HVCS5#TRPBF
designator U?, comment LTC6240
Single 18MHz, Low Noise, Rail-to-Rail Output, CMOS Op Amp; Manufacturer: Analog Devices; Manufacturer Part Number: LTC6240HVCS5#TRPBF; Manufacturer Lifecycle Status: PRODUCTION; Common Mode Rejection Ratio: 80dB; Input Bias Current: 500fA; Input Offset Voltage (Vos): 40µV; Max Dual Supply Voltage: 5.5V; Max Supply Voltage: 12V; Min Dual Supply Voltage: 1.4V; Min Supply Voltage: 2.8V; Number of Channels: 1; Operating Supply Current: 2.7mA; Output Current per Channel: 35mA; Slew Rate: 10V/µs; Voltage Gain: 124.08dB; Supplier: DigiKey; Supplier Part Number: LTC6240HVCS5#TRPBFCT-ND; RoHS: Compliant; Category: Amplifiers - Op Amps, Buffer, Instrumentation; Stock: 608; Pricing: 1=5.62, 10=3.682, 25=3.178, 100=2.6081, 250=2.32816, 500=2.15598, 1000=2.0875 (USD); Case/Package: SOT-23-5; Gain Bandwidth Product: 18MHz; Lifecycle Status: Production; Max Operating Temperature: 70°C; Min Operating Temperature: 0°C; Nominal Gain Bandwidth Product: 18MHz; Number of Circuits: 1; Number of Elements: 1; Pins: 5; Power Supply Rejection Ratio (PSRR): 80dB; Schedule B: 8542330000; ComponentLink1URL: https://octopart.com:443/opatz8j6/c1?t=EoJOC4xHGWqq0IzwURpvuTilUJr6oxn8FCFETNO4Zq2hCVGiVcszmCedJy3IM0JOiUrIiZW9OAkJEQuEVAP-9E-dA8NA1y2i1SkXDiRrK1hKzR0l3o3qbUhDn6e2gsbGFkXSeOh1NRwjTJqd3iDw0CugYr4FYbUt-t-yfMuHmZvzr6pA2z0fXrsVIGq1zoMZRKJzy6TiYnY4VDdrN1O0MY2z6NltC_O6gViF_xTQrYt4hMzkVZYWRWTFVHrCY31KCHJLiGAuWLJr-XK7_W8ecdUcfdWHr6PujJR28pJyTDxpp5OPCnCSHhk&src-supplier=Analog+Devices; ComponentLink1Description: https://octopart.com:443/opatz8j6/c1?t=EoJOC4xHGWqq0IzwURpvuTilUJr6oxn8FCFETNO4Zq2hCVGiVcszmCedJy3IM0JOiUrIiZW9OAkJEQuEVAP-9E-dA8NA1y2i1SkXDiRrK1hKzR0l3o3qbUhDn6e2gsbGFkXSeOh1NRwjTJqd3iDw0CugYr4FYbUt-t-yfMuHmZvzr6pA2z0fXrsVIGq1zoMZRKJzy6TiYnY4VDdrN1O0MY2z6NltC_O6gViF_xTQrYt4hMzkVZYWRWTFVHrCY31KCHJLiGAuWLJr-XK7_W8ecdUcfdWHr6PujJR28pJyTDxpp5OPCnCSHhk&src-supplier=Analog+Devices; ComponentLink2URL: https://datasheet.octopart.com:443/LTC6240HVCS5%23TRPBF-Analog-Devices-datasheet-10696582.pdf?src-supplier=Upverter; ComponentLink2Description: https://datasheet.octopart.com:443/LTC6240HVCS5%23TRPBF-Analog-Devices-datasheet-10696582.pdf?src-supplier=Upverter; ComponentLink3URL: https://sigma.octopart.com:443/57691980/technical_drawing/Linear-Technology-LTC6240HVCS5%23TRPBF.pdf?src-supplier=Linear+Technology; ComponentLink3Description: https://sigma.octopart.com:443/57691980/technical_drawing/Linear-Technology-LTC6240HVCS5%23TRPBF.pdf?src-supplier=Linear+Technology; ComponentLink4URL: https://datasheet.octopart.com:443/LTC6240HVCS5%23TRPBF-Linear-Technology-datasheet-503439.pdf?src-supplier=Component+Distributors+Inc.; ComponentLink4Description: https://datasheet.octopart.com:443/LTC6240HVCS5%23TRPBF-Linear-Technology-datasheet-503439.pdf?src-supplier=Component+Distributors+Inc.; ComponentLink5URL: http://sigma.octopart.com:80/conflict_mineral_statement/Analog-Devices-company-33.pdf?src-supplier=Compliance+Statements; ComponentLink5Description: http://sigma.octopart.com:80/conflict_mineral_statement/Analog-Devices-company-33.pdf?src-supplier=Compliance+Statements; ComponentLink6URL: https://octopart.com:443/opatz8j6/c1?t=WciAb8yNP9zuV9g87N3rk5A8aCwiNghx0T8LnhJFV6mKRZRGd55L4dKBPqx6qz3aqpltFHBg-8-BEwTcxfVEDGCQmnON-Gh2PRs8fnVgja709s1gnSHSPuZXis5aMSZAZOU881N3PgSj_buHp1gdatZw-Uix3fDtvuX3209Gm_KbWJ2H22rQDQ9m-2pL5NIQ_aaWB8j4M3xvDUEKrJd1jVzLSn7BPdLnFgEQCROBfoqhRN-2s8LQTzaPSFCP_0_4CdaH0GP8ZwV9vcO0T0oUPTEZ_K4gady1_XxW9ouI33HB3rRb-AWCaPQ&src-supplier=Compliance+Statements; ComponentLink6Description: https://octopart.com:443/opatz8j6/c1?t=WciAb8yNP9zuV9g87N3rk5A8aCwiNghx0T8LnhJFV6mKRZRGd55L4dKBPqx6qz3aqpltFHBg-8-BEwTcxfVEDGCQmnON-Gh2PRs8fnVgja709s1gnSHSPuZXis5aMSZAZOU881N3PgSj_buHp1gdatZw-Uix3fDtvuX3209Gm_KbWJ2H22rQDQ9m-2pL5NIQ_aaWB8j4M3xvDUEKrJd1jVzLSn7BPdLnFgEQCROBfoqhRN-2s8LQTzaPSFCP_0_4CdaH0GP8ZwV9vcO0T0oUPTEZ_K4gady1_XxW9ouI33HB3rRb-AWCaPQ&src-supplier=Compliance+Statements
footprint LT-S5-5-TSOT-23_L (SOT23, 5-Leads, Body 2.90x1.63mm, Pitch 0.95mm, IPC High Density)
footprint LTC6240 (SOT23, 5-Leads, Body 2.90x1.63mm, Pitch 0.95mm, IPC High Density)
pins: 1 out, 2 V-, 3 +IN, 4 -IN, 5 V+

## MAX22700EASA+
designator U?
MOSFET and Power Driver 5.7A Single Hi/Lo Side Inv/Non-Inv 8-Pin SOIC N; Manufacturer: Analog Devices; Manufacturer Lifecycle Status: PRODUCTION; Supplier: DigiKey; Manufacturer Part Number: MAX22700EASA+; RoHS: Compliant; Category: Gate Drivers; Stock: 18; Pricing: 1=4.56, 10=3.467, 25=3.1924, 100=2.8907, 300=2.72233, 500=2.66008, 1000=2.58869, 2500=2.51336 (USD); Lifecycle Status: Production; ComponentLink1URL: https://octopart.com:443/opatz8j6/c1?t=d9IZSUmFVmeiFEza4JYbjCWptqKSo-oQrcC1b9HLTjM8SgyuA4rt-UKLM_lg9g92uG_YGkggQNQDDUh9x4eYhYYEMlQ8EOGcy0xOKi9661-_2CNFuO_xUPCr0tlrUuDNx5JxL_q4fqwVbfWNc6gzFK95mza5n0-2OqiRTSdQMqBJJ3jfFhDTTNhArzy4ja8X3-lVsfTDz1_T9Hz63hwEk8N8vFkwyr2QE6k72H11354Duarn8LyBg1osG7gxDlOgtPiAaIzdtHupEHI9cRpmJmLPIvktPYVFuVJHI9DYJJb4FuPS1DQFZqpfVzQ&src-supplier=Analog+Devices; ComponentLink1Description: https://octopart.com:443/opatz8j6/c1?t=d9IZSUmFVmeiFEza4JYbjCWptqKSo-oQrcC1b9HLTjM8SgyuA4rt-UKLM_lg9g92uG_YGkggQNQDDUh9x4eYhYYEMlQ8EOGcy0xOKi9661-_2CNFuO_xUPCr0tlrUuDNx5JxL_q4fqwVbfWNc6gzFK95mza5n0-2OqiRTSdQMqBJJ3jfFhDTTNhArzy4ja8X3-lVsfTDz1_T9Hz63hwEk8N8vFkwyr2QE6k72H11354Duarn8LyBg1osG7gxDlOgtPiAaIzdtHupEHI9cRpmJmLPIvktPYVFuVJHI9DYJJb4FuPS1DQFZqpfVzQ&src-supplier=Analog+Devices; ComponentLink2URL: https://datasheet.octopart.com:443/MAX22700EASA%2B-Analog-Devices-datasheet-145303846.pdf?src-supplier=Ciiva; ComponentLink2Description: https://datasheet.octopart.com:443/MAX22700EASA%2B-Analog-Devices-datasheet-145303846.pdf?src-supplier=Ciiva; ComponentLink3URL: http://sigma.octopart.com:80/conflict_mineral_statement/Analog-Devices-company-33.pdf?src-supplier=Compliance+Statements; ComponentLink3Description: http://sigma.octopart.com:80/conflict_mineral_statement/Analog-Devices-company-33.pdf?src-supplier=Compliance+Statements; ComponentLink4URL: http://sigma.octopart.com:80/conflict_mineral_statement/Maxim-Integrated-company-65.pdf?src-supplier=Compliance+Statements; ComponentLink4Description: http://sigma.octopart.com:80/conflict_mineral_statement/Maxim-Integrated-company-65.pdf?src-supplier=Compliance+Statements; ComponentLink5URL: http://sigma.octopart.com:80/rohs_statement/Maxim-Integrated-company-66.pdf?src-supplier=Compliance+Statements; ComponentLink5Description: http://sigma.octopart.com:80/rohs_statement/Maxim-Integrated-company-66.pdf?src-supplier=Compliance+Statements; ComponentLink6URL: http://sigma.octopart.com:80/reach_statement/Maxim-Integrated-company-67.pdf?src-supplier=Compliance+Statements; ComponentLink6Description: http://sigma.octopart.com:80/reach_statement/Maxim-Integrated-company-67.pdf?src-supplier=Compliance+Statements; ComponentLink7URL: https://octopart.com:443/opatz8j6/c1?t=uq9ks65Rkl-f3xSZdxgFjQRktIJqr0XuISwlccZ9Be3A96kxw8KZXdJ2R1X8XijkZLzXX_Xf2iZ_1EYJiUW-k3O4zzF9VXGePyBlVwW68QXhCbuH73gJl5377Ogb3TIEqv1OFx2-kQa3MNaShuM43P0kqkThB15XIv8QEBeG0XiKApOZKBhFvtXuZuIU7_A7qb6Iwuw6Bk-DseikFnDV46qMQ0MwWtmQC_KZQpuB1lSHH6Kpq4IZwI1eexe3v5AcbCWclbrw0yEalPIZQxO6oIfrtCgyasXv1NOmGCZnwU25xZx-CHft1dwr-KU&src-supplier=Compliance+Statements; ComponentLink7Description: https://octopart.com:443/opatz8j6/c1?t=uq9ks65Rkl-f3xSZdxgFjQRktIJqr0XuISwlccZ9Be3A96kxw8KZXdJ2R1X8XijkZLzXX_Xf2iZ_1EYJiUW-k3O4zzF9VXGePyBlVwW68QXhCbuH73gJl5377Ogb3TIEqv1OFx2-kQa3MNaShuM43P0kqkThB15XIv8QEBeG0XiKApOZKBhFvtXuZuIU7_A7qb6Iwuw6Bk-DseikFnDV46qMQ0MwWtmQC_KZQpuB1lSHH6Kpq4IZwI1eexe3v5AcbCWclbrw0yEalPIZQxO6oIfrtCgyasXv1NOmGCZnwU25xZx-CHft1dwr-KU&src-supplier=Compliance+Statements; Supplier Part Number: 505-MAX22700EASA+-ND
footprint MAX227
pins: 1 VDDA, 2 IN, 3 ~{EN}, 4 GNDA, 5 GNDB, 6 VSSB, 7 OUT, 8 VDDB

## Pad_with_hole_4mmx1mm5
designator J?, comment 4MMx1.5MM
Pad with a hole 4mm x 3 mm
footprint Pad_with_hole_4mmx1mm5
pins: 1

## PEMs
designator P?, comment PEM
PEM: / SMTSOB-632-4ET
footprint PEMs (Brass Surface Mount Nuts and Spacers / Type SMTSOB)
pins: 1

## PNM0805E5001BST5
designator R?, comment 5K
Res Thin Film 0805 5K Ohm 0.1% 0.2W(1/5W) ±25ppm/C Sulfur Resistant Pad SMD Medical T/R; Manufacturer: Vishay; Manufacturer Part Number: PNM0805E5001BST5; Power Dissipation: 200mW; Value: 5kΩ; Temperature Coefficient: 25ppm/°C; Voltage Rating: 100V; Supplier: DigiKey; Supplier Part Number: PNM0805-5.0KBCT-ND; RoHS: Compliant; Category: Chip SMD Resistors; Stock: 3988; Pricing: 1=0.78, 10=0.647, 25=0.5996, 50=0.5668, 100=0.5274, 250=0.50048 (USD); Case/Package: 0805; Case Code (Imperial): 0805; Case Code (Metric): 2012; Composition: Thin Film; Height: 381µm; Length: 2.032mm; Lifecycle Status: Production; Max Operating Temperature: 150°C; Min Operating Temperature: -55°C; Mounting Technology: Surface Mount; Pins: 2; Number of Terminals: 2; Packaging: Cut Tape; Power Rating: 200mW; Radiation Hardening: No; REACH SVHC: Yes; Schedule B: 8533210045, 8533210045|8533210045|8533210045|8533210045|8533210045; Tolerance: 0.1%; Voltage Rating (DC): 100V; Width: 1.27mm; Working Voltage: 100V; ComponentLink1URL: https://datasheet.octopart.com:443/PNM0805E5001BST5-Vishay-datasheet-170667721.pdf?src-supplier=IHS; ComponentLink1Description: https://datasheet.octopart.com:443/PNM0805E5001BST5-Vishay-datasheet-170667721.pdf?src-supplier=IHS; ComponentLink2URL: https://datasheet.octopart.com:443/PNM0805E5001BST5-Vishay-datasheet-12549948.pdf?src-supplier=Factory+Futures; ComponentLink2Description: https://datasheet.octopart.com:443/PNM0805E5001BST5-Vishay-datasheet-12549948.pdf?src-supplier=Factory+Futures; ComponentLink3URL: https://datasheet.octopart.com:443/PNM0805E5001BST5-Vishay-datasheet-12534889.pdf?src-supplier=Factory+Futures; ComponentLink3Description: https://datasheet.octopart.com:443/PNM0805E5001BST5-Vishay-datasheet-12534889.pdf?src-supplier=Factory+Futures; ComponentLink4URL: https://datasheet.octopart.com:443/PNM0805E5001BST5-Vishay-datasheet-12521829.pdf?src-supplier=Factory+Futures; ComponentLink4Description: https://datasheet.octopart.com:443/PNM0805E5001BST5-Vishay-datasheet-12521829.pdf?src-supplier=Factory+Futures; ComponentLink5URL: https://datasheet.octopart.com:443/PNM0805E5001BST5-Vishay-datasheet-12520543.pdf?src-supplier=Factory+Futures; ComponentLink5Description: https://datasheet.octopart.com:443/PNM0805E5001BST5-Vishay-datasheet-12520543.pdf?src-supplier=Factory+Futures; ComponentLink6URL: https://datasheet.octopart.com:443/PNM0805E5001BST5-Vishay-datasheet-62321198.pdf?src-supplier=Farnell; ComponentLink6Description: https://datasheet.octopart.com:443/PNM0805E5001BST5-Vishay-datasheet-62321198.pdf?src-supplier=Farnell; ComponentLink7URL: https://datasheet.octopart.com:443/PNM0805E5001BST5-Vishay-datasheet-10025851.pdf?src-supplier=Newark; ComponentLink7Description: https://datasheet.octopart.com:443/PNM0805E5001BST5-Vishay-datasheet-10025851.pdf?src-supplier=Newark; ComponentLink8URL: http://sigma.octopart.com:80/rohs_statement/Vishay-company-15.pdf?src-supplier=Compliance+Statements; ComponentLink8Description: http://sigma.octopart.com:80/rohs_statement/Vishay-company-15.pdf?src-supplier=Compliance+Statements
footprint Resis5k (Chip Resistor, 2-Leads, Body 2.03x1.27mm, IPC Low Density)
pins: 1, 2

## RA73F2A26K7BTD
designator R?, comment 17k
Fixed Resistor, Thin Film, 1W, 0.1% +/-Tol, 25ppm/Cel, 0805; Manufacturer: TE Connectivity / Holsworthy; Manufacturer Part Number: RA73F2A26K7BTD; Temperature Coefficient: 25ppm/°C; Supplier: DigiKey; Supplier Part Number: 1712-RA73F2A26K7BTDCT-ND; RoHS: Compliant; Category: Chip SMD Resistors; Stock: 4990; Pricing: 1=1.02, 10=0.848, 25=0.7864, 50=0.7434, 100=0.7041, 250=0.65744, 500=0.62612, 1000=0.59809 (USD); China RoHS: Compliant; Lifecycle Status: Production; Number of Terminals: 2; Packaging: Tape & Reel; Power Dissipation: 1W; Power Rating: 1W; REACH SVHC: Yes; Tolerance: 0.1%; ComponentLink1URL: https://datasheet.octopart.com:443/RA73F2A26K7BTD-TE-Connectivity-datasheet-184938103.pdf?src-supplier=IHS; ComponentLink1Description: https://datasheet.octopart.com:443/RA73F2A26K7BTD-TE-Connectivity-datasheet-184938103.pdf?src-supplier=IHS; ComponentLink2URL: https://datasheet.octopart.com:443/RA73F2A26K7BTD-TE-Connectivity---Holsworthy-datasheet-158073916.pdf?src-supplier=TE+Connectivity; ComponentLink2Description: https://datasheet.octopart.com:443/RA73F2A26K7BTD-TE-Connectivity---Holsworthy-datasheet-158073916.pdf?src-supplier=TE+Connectivity; ComponentLink3URL: https://sigma.octopart.com:443/184536780/technical_drawing/TE-Connectivity-RA73F2A26K7BTD.pdf?src-supplier=TE+Connectivity; ComponentLink3Description: https://sigma.octopart.com:443/184536780/technical_drawing/TE-Connectivity-RA73F2A26K7BTD.pdf?src-supplier=TE+Connectivity
footprint R0805
pins: 1, 2

## RC0402FR-072M2L
designator R?, comment 2.2M
62.5mW Thick Film Resistors 50V ±100ppm/℃ ±1% 2.2MΩ 0402 Chip Resistor - Surface Mount ROHS; Manufacturer: Yageo Group; Manufacturer Part Number: RC0402FR-072M2L; Max Power Dissipation: 63mW; Temperature Coefficient: 100ppm/°C; Supplier: DigiKey; Supplier Part Number: 13-RC0402FR-072M2LCT-ND; RoHS: Compliant; Category: Chip SMD Resistors; Stock: 257023; Pricing: 1=0.1, 10=0.005, 25=0.0044, 50=0.0032 (USD); Case/Package: 0402; Case Code (Imperial): 0402; Case Code (Metric): 1005; China RoHS: Non-Compliant; Composition: Thick Film; Depth: 500µm; Features: Moisture Resistant; Height: 350µm; Lead Free: Lead Free; Length: 1mm; Lifecycle Status: Production; Max Operating Temperature: 155°C; Military Standard: Not; Min Operating Temperature: -55°C; Mounting Technology: Surface Mount; Pins: 2; Number of Terminals: 2; Number of Terminations: 2; Packaging: Cut Tape; Power Dissipation: 62.5mW; Power Rating: 63mW; REACH SVHC: Yes; Value: 2.2MΩ; Schedule B: 8533210045, 8533210045|8533210045, 8533210045|8533210045|8533210045, 8533210045|8533210045|8533210045|8533210045|8533210045|8533210045|8533210045|8533210045|8533210045|8533210045|8533210045|8533210045|8533210045|8533210045|8533210045|8533210045|8533210045|8533210045|8533210045|8533210045|8533210045|8533210045|8533210045|85; Termination: SMD/SMT; Tolerance: 1%; Voltage Rating: 50V; Voltage Rating (AC): 50V; Voltage Rating (DC): 50V; Width: 500µm; Working Voltage: 50V; ComponentLink1URL: https://datasheet.octopart.com:443/RC0402FR-072M2L-Yageo-datasheet-175887523.pdf?src-supplier=Newark; ComponentLink1Description: https://datasheet.octopart.com:443/RC0402FR-072M2L-Yageo-datasheet-175887523.pdf?src-supplier=Newark; ComponentLink2URL: https://datasheet.octopart.com:443/RC0402FR-072M2L-Yageo-datasheet-8324527.pdf?src-supplier=Newark; ComponentLink2Description: https://datasheet.octopart.com:443/RC0402FR-072M2L-Yageo-datasheet-8324527.pdf?src-supplier=Newark; ComponentLink3URL: https://datasheet.octopart.com:443/RC0402FR-072M2L-Yageo-datasheet-103092701.pdf?src-supplier=Upverter; ComponentLink3Description: https://datasheet.octopart.com:443/RC0402FR-072M2L-Yageo-datasheet-103092701.pdf?src-supplier=Upverter; ComponentLink4URL: https://datasheet.octopart.com:443/RC0402FR-072M2L-Yageo-Group-datasheet-190305687.pdf?src-supplier=Future+Electronics; ComponentLink4Description: https://datasheet.octopart.com:443/RC0402FR-072M2L-Yageo-Group-datasheet-190305687.pdf?src-supplier=Future+Electronics; ComponentLink5URL: https://datasheet.octopart.com:443/RC0402FR-072M2L-Yageo-datasheet-164759695.pdf?src-supplier=Future+Electronics; ComponentLink5Description: https://datasheet.octopart.com:443/RC0402FR-072M2L-Yageo-datasheet-164759695.pdf?src-supplier=Future+Electronics; ComponentLink6URL: https://datasheet.octopart.com:443/RC0402FR-072M2L-Yageo-datasheet-137700087.pdf?src-supplier=Future+Electronics; ComponentLink6Description: https://datasheet.octopart.com:443/RC0402FR-072M2L-Yageo-datasheet-137700087.pdf?src-supplier=Future+Electronics; ComponentLink7URL: https://datasheet.octopart.com:443/RC0402FR-072M2L-Yageo-datasheet-12531192.pdf?src-supplier=Future+Electronics; ComponentLink7Description: https://datasheet.octopart.com:443/RC0402FR-072M2L-Yageo-datasheet-12531192.pdf?src-supplier=Future+Electronics; ComponentLink8URL: https://datasheet.octopart.com:443/RC0402FR-072M2L-Yageo-datasheet-10408619.pdf?src-supplier=element14+APAC; ComponentLink8Description: https://datasheet.octopart.com:443/RC0402FR-072M2L-Yageo-datasheet-10408619.pdf?src-supplier=element14+APAC; ComponentLink9URL: https://datasheet.octopart.com:443/RC0402FR-072M2L-Yageo-datasheet-62067350.pdf?src-supplier=element14+APAC; ComponentLink9Description: https://datasheet.octopart.com:443/RC0402FR-072M2L-Yageo-datasheet-62067350.pdf?src-supplier=element14+APAC; ComponentLink10URL: https://datasheet.octopart.com:443/RC0402FR-072M2L-Yageo-datasheet-148775077.pdf?src-supplier=JRH+Electronics; ComponentLink10Description: https://datasheet.octopart.com:443/RC0402FR-072M2L-Yageo-datasheet-148775077.pdf?src-supplier=JRH+Electronics; ComponentLink11URL: https://datasheet.octopart.com/RC0402FR-072M2L-Yageo-datasheet-73766026.pdf; ComponentLink11Description: https://datasheet.octopart.com/RC0402FR-072M2L-Yageo-datasheet-73766026.pdf; ComponentLink12URL: http://sigma.octopart.com:80/conflict_mineral_statement/Yageo-company-3.pdf?src-supplier=Compliance+Statements; ComponentLink12Description: http://sigma.octopart.com:80/conflict_mineral_statement/Yageo-company-3.pdf?src-supplier=Compliance+Statements; ComponentLink13URL: http://sigma.octopart.com:80/rohs_statement/Yageo-company-2.pdf?src-supplier=Compliance+Statements; ComponentLink13Description: http://sigma.octopart.com:80/rohs_statement/Yageo-company-2.pdf?src-supplier=Compliance+Statements
footprint Resistor-26.7
pins: 1, 2